# Altium footprint library myLIB.PcbLib: 150 footprints (part 8 of 10)
Each footprint in its own frame and in the unit in brackets; x right, y up, seen from the top. Pads: shape width x height; smd on the part's side, far side on the other; paste and mask are expansions set on the pad; w line width, h text height; cw(c..) or ccw(c..) is an arc to the next point about the centre after c.
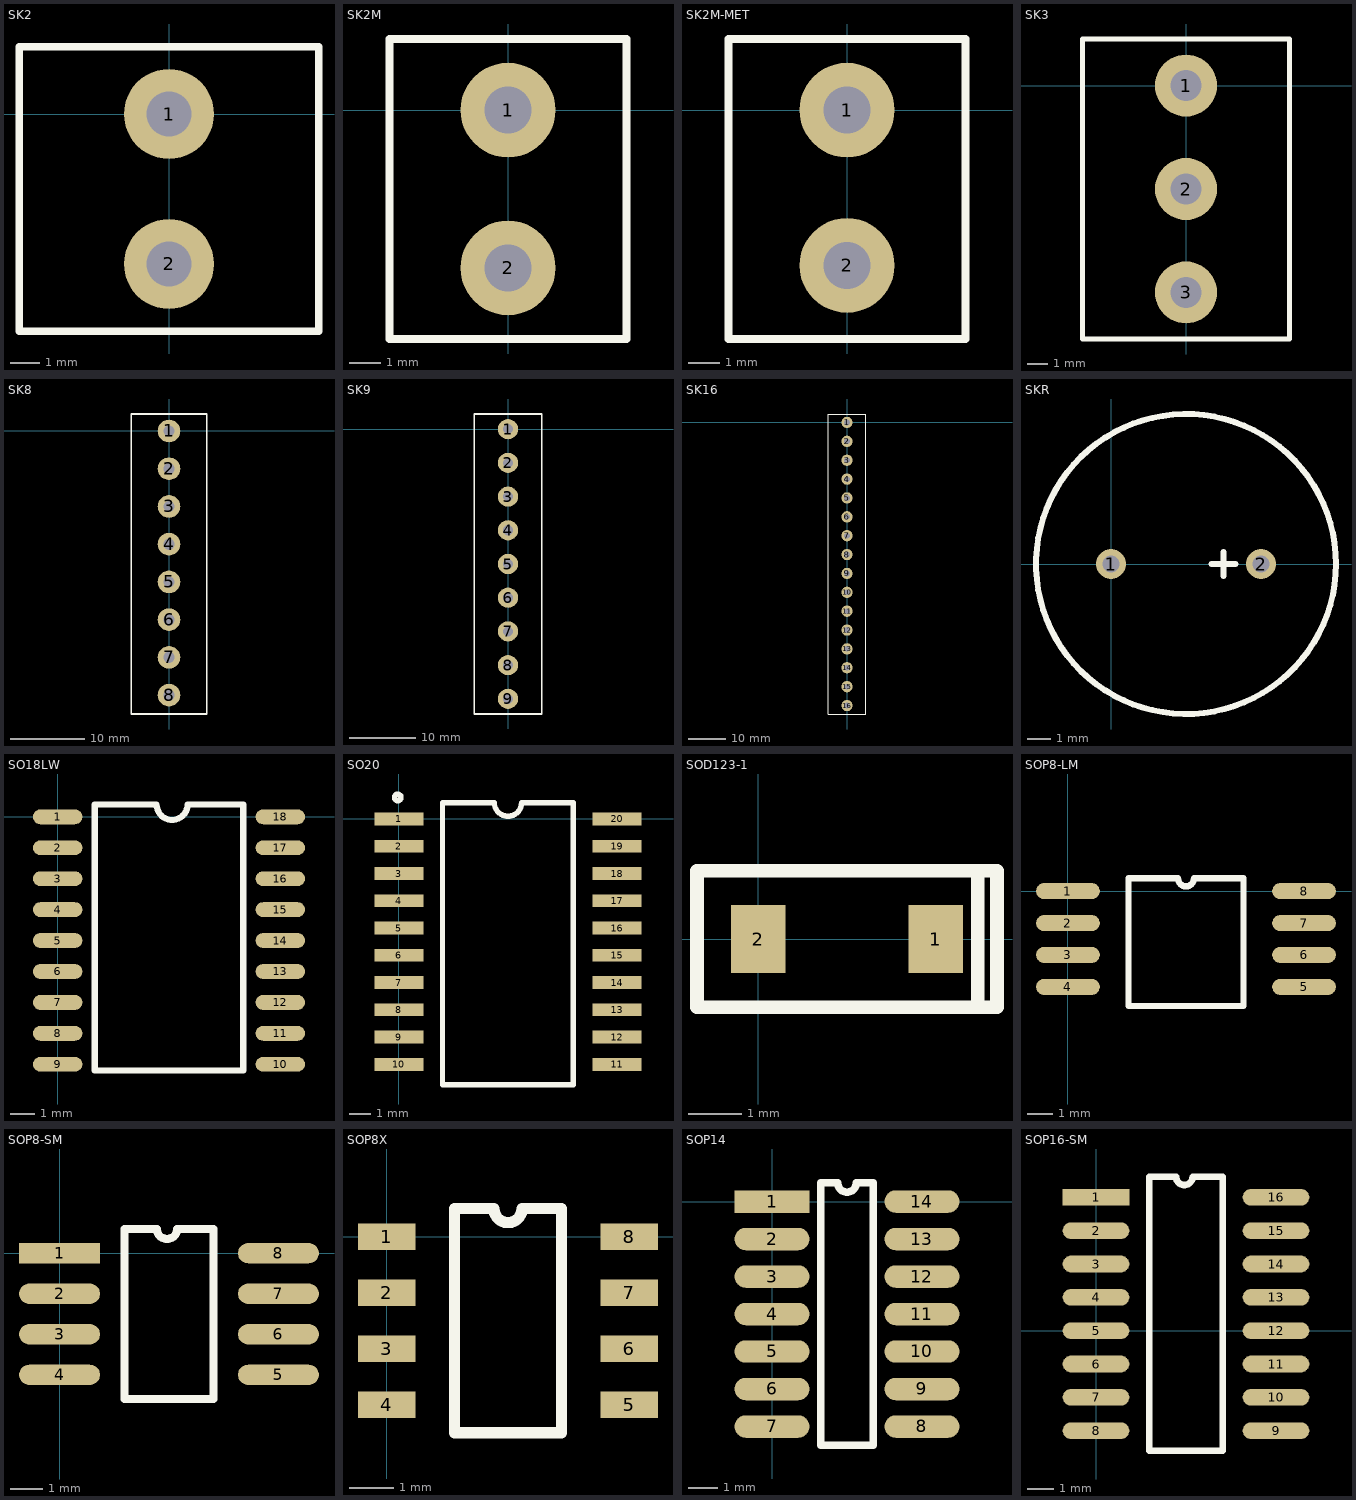
[diagram p7: the footprints below, top view; thin cyan lines are the x and y axes]

## SK2 [mil]
pads (2):
  round 120 hole 60: 1(0,0) 2(0,-200)
TopOverlay:
  lines w10: -200,-290 -200,90 200,90 200,-290 -200,-290

## SK2M [mil]
pads (2):
  round 120 hole 60: 1(0,0) 2(0,-200)
TopOverlay:
  lines w10: -150,-290 -150,90 150,90 150,-290 -150,-290

## SK2M-MET [mil]
pads (2):
  round 120 hole 60: 1(0,0) 2(0,-196.85)
TopOverlay:
  lines w10: -150,-290 -150,90 150,90 150,-290 -150,-290

## SK3 [mil]
pads (3):
  round 120 hole 60: 1(0,0) 2(0,-200) 3(0,-400)
TopOverlay:
  lines w10: -200,-490 -200,90 200,90 200,-490 -200,-490

## SK8 [mil]
pads (8):
  round 120 hole 60: 1(0,0) 2(0,-200) 3(0,-400) 4(0,-600) 5(0,-800) 6(0,-1000) 7(0,-1200) 8(0,-1400)
TopOverlay:
  lines w10: -200,-1500 200,-1500 200,90 -200,90 -200,-1500

## SK9 [mil]
pads (9):
  round 120 hole 60: 1(0,0) 2(0,-200) 3(0,-400) 4(0,-600) 5(0,-800) 6(0,-1000) 7(0,-1200) 8(0,-1400) 9(0,-1600)
TopOverlay:
  lines w10: -200,-1690 -200,90 200,90 200,-1690 -200,-1690

## SK16 [mil]
pads (16):
  round 120 hole 60: 1(0,0) 2(0,-200) 3(0,-400) 4(0,-600) 5(0,-800) 6(0,-1000) 7(0,-1200) 8(0,-1400) 9(0,-1600) 10(0,-1800) 11(0,-2000) 12(0,-2200) 13(0,-2400) 14(0,-2600) 15(0,-2800) 16(0,-3000)
TopOverlay:
  lines w10: -200,-3090 200,-3090 200,90 -200,90 -200,-3090

## SKR [mil]
pads (2):
  round 50 hole 28: 1(0,0) 2(250,0)
TopOverlay:
  circle w10: c125,0 r250
  lines w10: 167.5,0 207.5,0 ; 187.5,-20 187.5,20

## SO18LW [mil]
pads (18):
  oval 80x24 smd: 1(0,0) 2(0,-50) 3(0,-100) 4(0,-150) 5(0,-200) 6(0,-250) 7(0,-300) 8(0,-350) 9(0,-400) 10(360,-400) 11(360,-350) 12(360,-300) 13(360,-250) 14(360,-200) 15(360,-150) 16(360,-100) 17(360,-50) 18(360,0)
TopOverlay:
  lines w10: 60,-410 60,20 160,20 ccw(c185,20) 210,20 300,20 300,-410 60,-410

## SO20 [mm]
pads (20):
  rect 2.3x0.6 smd: 1(0,0) 2(0,-1.27) 3(0,-2.54) 4(0,-3.81) 5(0,-5.08) 6(0,-6.35) 7(0,-7.62) 8(0,-8.89) 9(0,-10.16) 10(0,-11.43) 11(10.16,-11.43) 12(10.16,-10.16) 13(10.16,-8.89) 14(10.16,-7.62) 15(10.16,-6.35) 16(10.16,-5.08) 17(10.16,-3.81) 18(10.16,-2.54) 19(10.16,-1.27) 20(10.16,0)
TopOverlay:
  circle w0.25: c-0.053,1.002 r0.15
  lines w0.25: 2.028,-12.388 8.128,-12.388 8.128,0.762 5.713,0.762 cw(c5.078,0.762) 4.443,0.762 2.028,0.762 2.028,-12.388

## SOD123-1 [mil]
pads (2):
  rect 40x50 smd: 1(130,0) 2(0,0)
TopOverlay:
  lines w10: 161,-50 161,50 ; -45,-50 -45,0 -45,50 175,50 175,-50 -45,-50

## SOP8-LM [mil]
pads (8):
  oval 100x25 smd: 1(0,0) 2(0,-50) 3(0,-100) 4(0,-150) 5(370,-150) 6(370,-100) 7(370,-50) 8(370,0)
TopOverlay:
  lines w10: 95,-180 275,-180 275,20 197.5,20 cw(c185,20) 172.5,20 95,20 95,-180

## SOP8-SM [mil]
pads (8):
  rect 100x25 smd: 1(0,0)
  oval 100x25 smd: 2(0,-50) 3(0,-100) 4(0,-150) 5(270,-150) 6(270,-100) 7(270,-50) 8(270,0)
TopOverlay:
  lines w10: 80,-180 190,-180 190,30 145,30 cw(c132.5,30) 120,30 80,30 80,-180

## SOP8X [mm]
pads (8):
  rect 1.3x0.6 smd: 1(0,0) 2(0,-1.27) 3(0,-2.54) 4(0,-3.81) 5(5.5,-3.81) 6(5.5,-2.54) 7(5.5,-1.27) 8(5.5,0)
TopOverlay:
  lines w0.254: 1.539,-4.445 1.539,0.635 2.432,0.635 ccw(c2.75,0.635) 3.067,0.635 3.961,0.635 3.961,-4.445 1.539,-4.445

## SOP14 [mil]
pads (14):
  rect 100x30 smd: 1(0,0)
  oval 100x30 smd: 2(0,-50) 3(0,-100) 4(0,-150) 5(0,-200) 6(0,-250) 7(0,-300) 8(200,-300) 9(200,-250) 10(200,-200) 11(200,-150) 12(200,-100) 13(200,-50) 14(200,0)
TopOverlay:
  lines w10: 65,-325 65,25 87.5,25 ccw(c100,25) 112.5,25 135,25 135,-325 65,-325

## SOP16-SM [mil]
pads (16):
  rect 100x25 smd: 1(0,200)
  oval 100x25 smd: 2(0,150) 3(0,100) 4(0,50) 5(0,0) 6(0,-50) 7(0,-100) 8(0,-150) 9(270,-150) 10(270,-100) 11(270,-50) 12(270,0) 13(270,50) 14(270,100) 15(270,150) 16(270,200)
TopOverlay:
  lines w10: 80,-180 80,231 120,231 ccw(c132.5,231) 145,231 190,231 190,-180 80,-180